# EAGLE library part B8B-PH-K (library Connectors_jst)
HEADER
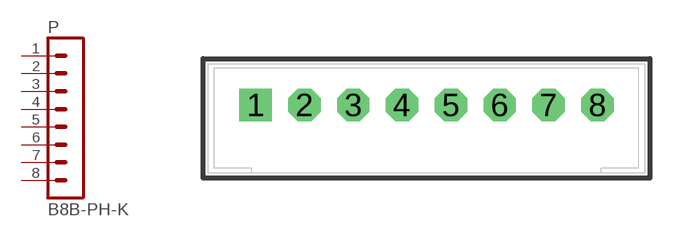
[diagram p2: symbol with the pads of B8B-PH-K; footprint B8B-PH-K]

Designator prefix P

## B8B-PH-K  [B8B-PH-K]
1  1  pas
2  2  pas
3  3  pas
4  4  pas
5  5  pas
6  6  pas
7  7  pas
8  8  pas

## Footprint B8B-PH-K (pad centres in mm)
HEADER
drill 0.813 square: 1 -7,0
drill 0.813 octagon: 2 -5,0; 3 -3,0; 4 -1,0; 5 1,0; 6 3,0; 7 5,0; 8 7,0